# Altium footprint library libreriaPcb.PcbLib: 683 footprints (part 44 of 44)
Each footprint in its own frame and in the unit in brackets; x right, y up, seen from the top. Pads: shape width x height; smd on the part's side, far side on the other; paste and mask are expansions set on the pad; w line width, h text height; cw(c..) or ccw(c..) is an arc to the next point about the centre after c.
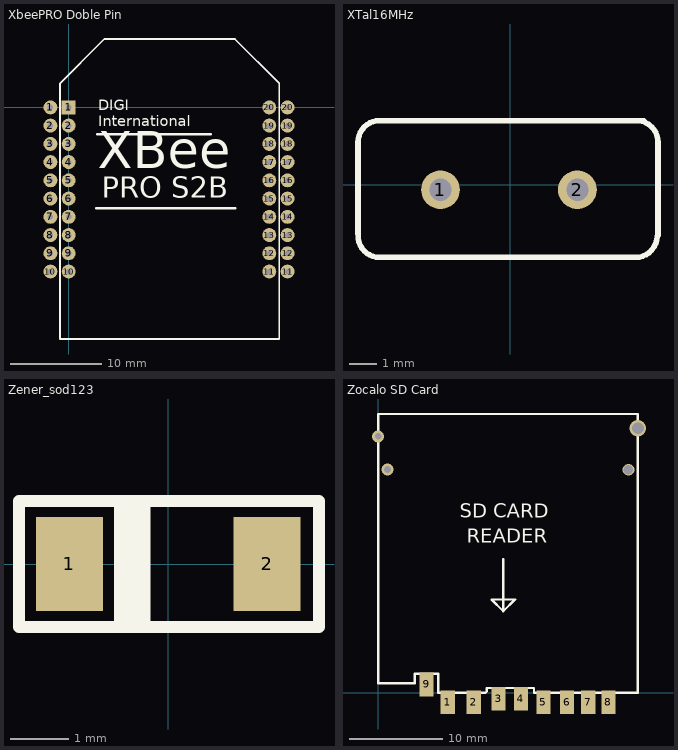
[diagram p43: the footprints below, top view; thin cyan lines are the x and y axes]

## XbeePRO Doble Pin [mm]
pads (40):
  round 1.524 hole 0.6: 1(-2,0) 2(-2,-2) 2(0,-2) 3(-2,-4) 3(0,-4) 4(-2,-6) 4(0,-6) 5(-2,-8) 5(0,-8) 6(-2,-10) 6(0,-10) 7(-2,-12) 7(0,-12) 8(-2,-14) 8(0,-14) 9(-2,-16) 9(0,-16) 10(-2,-18) 10(0,-18) 11(22,-18) 11(24,-18) 12(22,-16) 12(24,-16) 13(22,-14) 13(24,-14) 14(22,-12) 14(24,-12) 15(22,-10) 15(24,-10) 16(22,-8) 16(24,-8) 17(22,-6) 17(24,-6) 18(22,-4) 18(24,-4) 19(22,-2) 19(24,-2) 20(22,0) 20(24,0)
  rect 1.524x1.524 hole 0.6: 1(0,0)
Top Overlay:
  lines w0.2: -0.95,-25.4 -0.95,-6.173 -0.95,2.65 3.625,7.225 3.9,7.5 4.425,7.5 17.375,7.5 18.225,7.5 23.1,2.625 23.1,-25.4 -0.95,-25.4
  lines w0.254: 3.025,-11.075 18.25,-11.075 ; 3.125,-2.95 15.575,-2.95
  text "XBee" at 3.175,-8.05 h7
  text "DIGI" at 3.225,-0.7 h2
  text "International" at 3.225,-2.425 h2
  text "PRO S2B" at 3.6,-10.675 h4
3D body: height 4, standoff 1, extent -0.951,-25.401 23.101,7.501

## XTal16MHz [mm]
pads (2):
  round 1.4 hole 0.8: 1(-2.525,-0.175) 2(2.425,-0.175)
Top Overlay:
  lines w0.2: -5.508,-1.775 -5.508,1.542 cw(c-4.725,1.542) -4.725,2.325 4.825,2.325 ; -5.507,-1.811 ccw(c-4.725,-1.842) -4.725,-2.625 4.525,-2.625 ccw(c4.525,-1.842) 5.307,-1.859 5.34,-1.827 5.34,1.543 ccw(c4.557,1.543) 4.525,2.325
3D body: height 10, standoff 0, extent -5.608,-2.725 5.44,2.426

## ZD1 [mm] "Disipador ZD1-50mm"
height 29
3D body: height 7, standoff 3.5, extent 48,0 55.5,50
3D body: height 7, standoff 3.5, extent 2.5,0 10,50
3D body: height 29, standoff 3.5, extent 45.5,0 48,50
3D body: height 29, standoff 3.5, extent 55.5,0 58,50
3D body: height 29, standoff 3.5, extent 10,0 12.5,50
3D body: height 29, standoff 3.5, extent 0,0 2.5,50
3D body: height 3.5, standoff 0, extent 0,0 58,50

## ZD1-1/2 [mm]
height 28
3D body: height 7, standoff 3.5, extent 48,0 55.5,25
3D body: height 7, standoff 3.5, extent 2.5,0 10,25
3D body: height 29, standoff 3.5, extent 45.5,0 48,25
3D body: height 29, standoff 3.5, extent 55.5,0 58,25
3D body: height 29, standoff 3.5, extent 10,0 12.5,25
3D body: height 29, standoff 3.5, extent 0,0 2.5,25
3D body: height 3.5, standoff 0, extent 0,0 58,25

## Zener_sod123 [mm]
pads (2):
  rect 1.15x1.6 smd: 1(-1.687,0) 2(1.687,0)
Top Overlay:
  rectangle: -0.925,-1.075 -0.3,1.075
  lines w0.2: -2.55,-1.075 -1.438,-1.075 2.575,-1.075 2.575,1.075 -2.55,1.075 -2.55,-1.075
3D body: height 1.1, standoff 0, extent -1.25,-0.8 -0.875,0.8
3D body: height 1, standoff 0, extent -1.287,-0.8 1.313,0.8
3D body: height 1, standoff 0, extent -1.587,-0.8 -1.287,0.8
3D body: height 1, standoff 0, extent 1.312,-0.8 1.612,0.8

## Zocalo SD Card [mil]
pads (9):
  rect 60x100 smd: 1(295,-40) 2(405,-40) 3(510,-25) 4(605,-25) 5(700,-40) 6(800,-40) 7(890,-40) 8(975,-40) 9(205,35)
via 1100,1120 diameter 70 hole 50
via 0,1085 diameter 50 hole 28
via 40,945 diameter 50 hole 28
via 1060,944 diameter 50 hole 40
Top Overlay:
  lines w10: 530,565 530,350 530,345 ; 530,345 480,395 580,395 530,345 ; 0,40 155,40 155,80 255,80 255,0 455,0 460,5 460,20 660,20 660,0 1100,0 1100,1180 0,1180 0,40
  text "SD CARD" at 345,740 h60
  text "READER" at 375,635 h60